# Altium footprint library C型车9S12XS主控板.PcbLib: 26 footprints (part 1 of 2)
Each footprint in its own frame and in the unit in brackets; x right, y up, seen from the top. Pads: shape width x height; smd on the part's side, far side on the other; paste and mask are expansions set on the pad; w line width, h text height; cw(c..) or ccw(c..) is an arc to the next point about the centre after c.
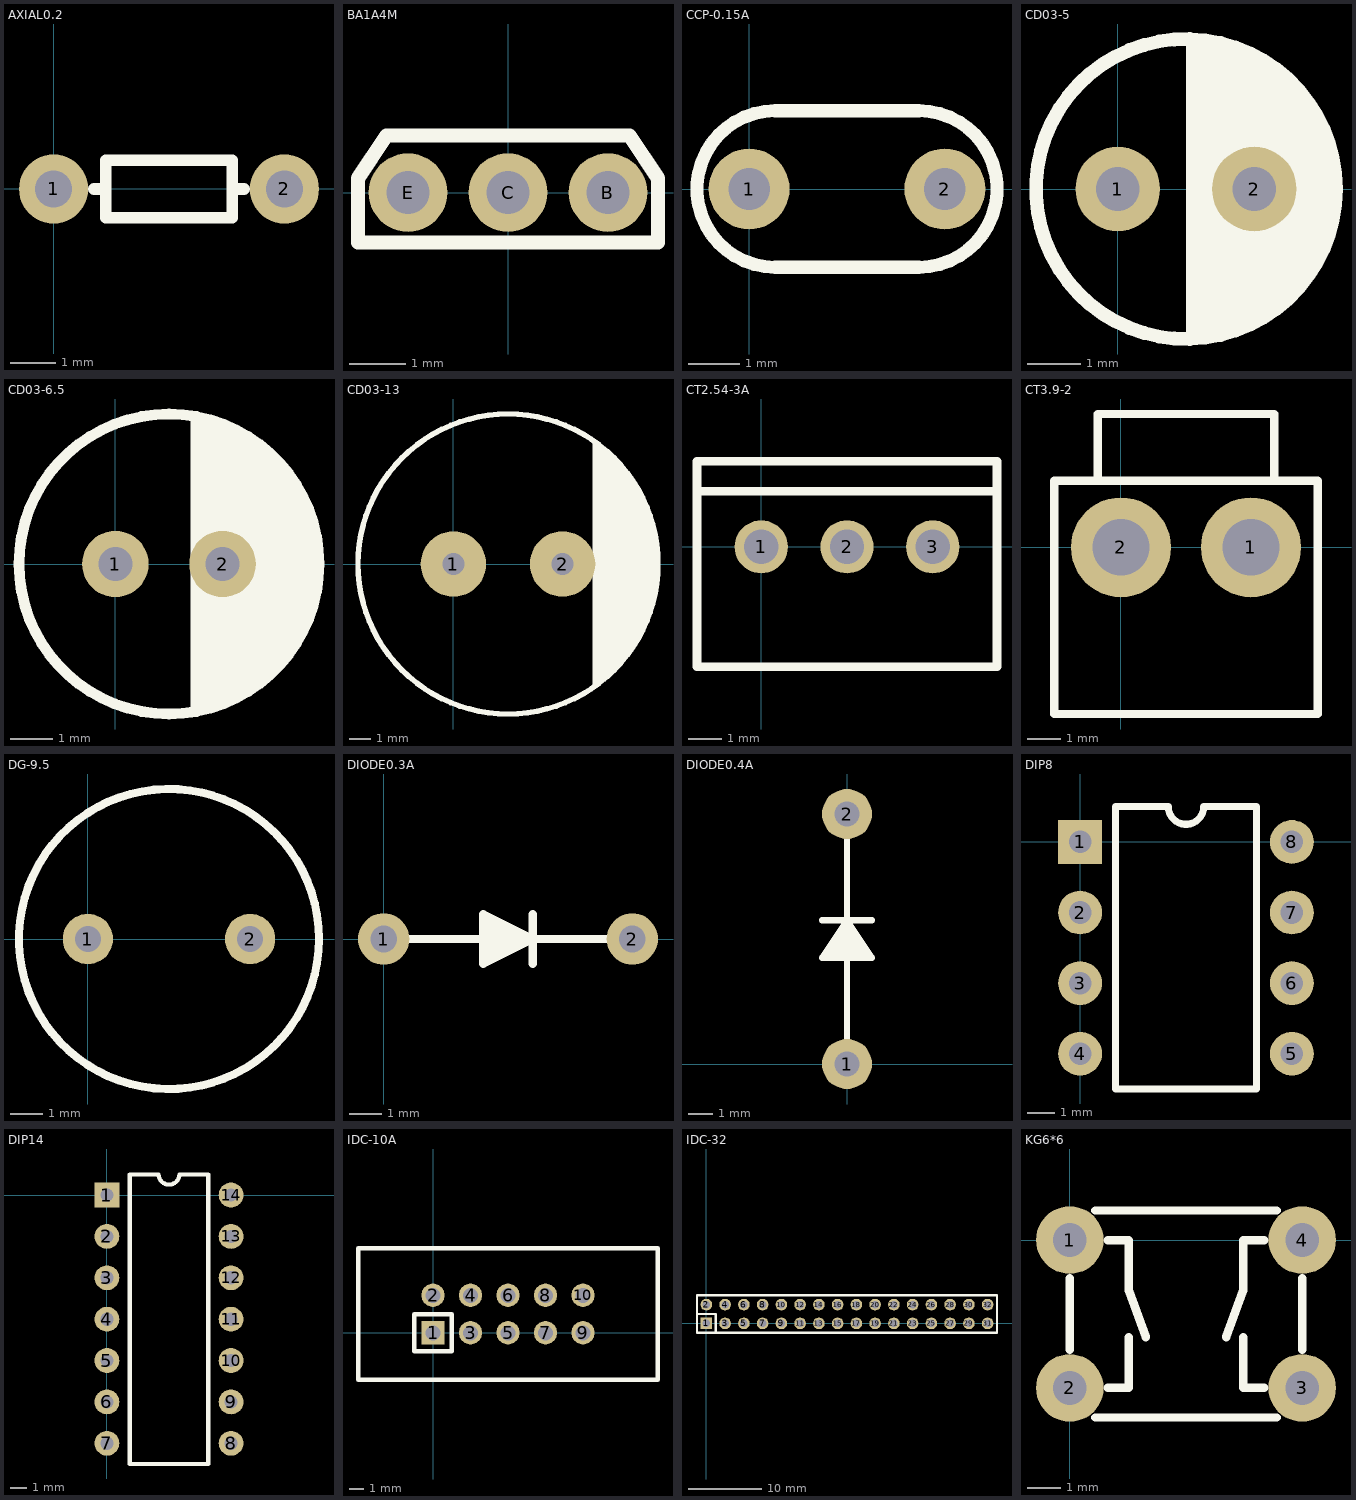
[diagram p0: the footprints below, top view; thin cyan lines are the x and y axes]

## AXIAL0.2 [mil]
pads (2):
  round 60 hole 32: 1(0,0) 2(200,0)
Top Overlay:
  lines w10: 35,0 40,0 ; 160,0 165,0 ; 45,-25 155,-25 155,25 45,25 45,-25

## BA1A4M [mil]
pads (3):
  round 55 hole 30: B(70,0) C(0,0) E(-70,0)
Top Overlay:
  lines w10: -105,-35 -105,10 -85,40 85,40 105,10 105,-35 -105,-35

## CCP-0.15A [mil]
pads (2):
  round 62 hole 32: 1(0,0) 2(150,0)
Top Overlay:
  lines w10: 20,-60 cw(c20,0) 20,60 130,60 cw(c130,0) 130,-60 20,-60

## CD03-5 [mil]
pads (2):
  round 62 hole 32: 1(0,0) 2(100,0)
Top Overlay:
  circle w10: c50,0 r110
  rectangle: 150,-35 155,35
  rectangle: 140,-55 150,55
  rectangle: 130,-70 140,70
  rectangle: 120,-80 130,80
  rectangle: 110,-90 120,90
  rectangle: 95,-95 110,95
  rectangle: 50,-105 95,105

## CD03-6.5 [mil]
pads (2):
  round 62 hole 32: 1(0,0) 2(100,0)
Top Overlay:
  circle w10: c50,0 r140
  rectangle: 180,-40 185,40
  rectangle: 175,-55 180,55
  rectangle: 170,-65 175,65
  rectangle: 165,-75 170,75
  rectangle: 155,-85 165,85
  rectangle: 150,-95 155,95
  rectangle: 145,-100 150,100
  rectangle: 140,-105 145,105
  rectangle: 130,-110 140,110
  rectangle: 120,-120 130,120
  rectangle: 110,-125 120,125
  rectangle: 100,-130 110,130
  rectangle: 70,-135 100,135

## CD03-13 [mil]
pads (2):
  round 120 hole 40: 1(0,0) 2(200,0)
Top Overlay:
  circle w10: c100,0 r275
  rectangle: 265,-215 270,215
  rectangle: 255,-225 265,225
  rectangle: 360,-75 370,75
  rectangle: 350,-105 360,105
  rectangle: 340,-125 350,125
  rectangle: 330,-140 340,145
  rectangle: 320,-160 330,160
  rectangle: 310,-170 320,170
  rectangle: 300,-185 310,185
  rectangle: 290,-195 300,195
  rectangle: 280,-205 290,205
  rectangle: 270,-215 280,210

## CT2.54-3A [mil]
pads (3):
  round 62 hole 40: 1(0,0) 2(100,0) 3(200,0)
Top Overlay:
  lines w10: -75,65 275,65 ; -75,-140 275,-140 275,100 -75,100 -75,-140

## CT3.9-2 [mm]
pads (2):
  round 3 hole 1.7: 1(3.9,0) 2(0,0)
Top Overlay:
  lines w0.254: -0.7,2 -0.7,4 4.6,4 4.6,2 ; -0.7,2 4.6,2 ; -0.7,2 -2,2 -2,-5 5.9,-5 5.9,2 4.6,2

## DG-9.5 [mil]
pads (2):
  round 62 hole 32: 1(0,0) 2(200,0)
Top Overlay:
  circle w10: c100,0 r185

## DIODE0.3A [mil]
pads (2):
  round 62 hole 32: 1(0,0) 2(300,0)
Top Overlay:
  rectangle: 155,-10 170,10
  rectangle: 140,-15 155,15
  rectangle: 125,-25 140,25
  rectangle: 175,-10 185,10
  rectangle: 185,-5 190,5
  lines w10: 0,0 120,0 ; 180,-30 180,30 ; 300,0 180,0 ; 180,0 120,-30 120,30 180,0

## DIODE0.4A [mil]
pads (2):
  round 80 hole 40: 1(0,0) 2(0,400)
Top Overlay:
  rectangle: -35,175 35,185
  rectangle: -25,185 25,200
  rectangle: -15,200 15,215
  rectangle: -5,215 5,225
  lines w10: -40,230 40,230 ; 0,0 0,170 ; 0,400 0,230 ; 0,230 40,170 -40,170 0,230

## DIP8 [mil]
pads (8):
  rect 62x62 hole 32: 1(0,0)
  round 62 hole 32: 2(0,-100) 3(0,-200) 4(0,-300) 5(300,-300) 6(300,-200) 7(300,-100) 8(300,0)
Top Overlay:
  lines w10: 50,-350 250,-350 250,50 175,50 cw(c150,50) 125,50 50,50 50,-350

## DIP14 [mil]
pads (14):
  rect 60x60 hole 32: 1(0,0)
  round 60 hole 32: 2(0,-100) 3(0,-200) 4(0,-300) 5(0,-400) 6(0,-500) 7(0,-600) 8(300,-600) 9(300,-500) 10(300,-400) 11(300,-300) 12(300,-200) 13(300,-100) 14(300,0)
Top Overlay:
  lines w10: 55,-650 55,50 125,50 ccw(c150,50) 175,50 245,50 245,-650 55,-650

## IDC-10A [mil]
pads (10):
  rect 62x62 hole 40: 1(0,0)
  round 62 hole 40: 2(0,100) 3(100,0) 4(100,100) 5(200,0) 6(200,100) 7(300,0) 8(300,100) 9(400,0) 10(400,100)
Top Overlay:
  lines w12: -200,-125 -200,225 600,225 600,-125 -200,-125 ; -50,-50 -50,50 50,50 50,-50 -50,-50

## IDC-32 [mil]
pads (32):
  rect 62x62 hole 40: 1(0,0)
  round 62 hole 40: 2(0,100) 3(100,0) 4(100,100) 5(200,0) 6(200,100) 7(300,0) 8(300,100) 9(400,0) 10(400,100) 11(500,0) 12(500,100) 13(600,0) 14(600,100) 15(700,0) 16(700,100) 17(800,0) 18(800,100) 19(900,0) 20(900,100) 21(1000,0) 22(1000,100) 23(1100,0) 24(1100,100) 25(1200,0) 26(1200,100) 27(1300,0) 28(1300,100) 29(1400,0) 30(1400,100) 31(1500,0) 32(1500,100)
Top Overlay:
  lines w12: -50,50 50,50 50,-50 ; -50,-50 1550,-50 1550,150 -50,150 -50,-50

## KG6*6 [mil]
pads (4):
  round 80 hole 40: 1(0,0) 2(0,-175) 3(275,-175) 4(275,0)
Top Overlay:
  lines w10: 0,-130 0,-45 ; 30,-210 245,-210 ; 30,35 245,35 ; 45,-175 70,-175 70,-115 ; 45,0 70,0 70,-60 90,-115 ; 185,-115 205,-60 205,0 230,0 ; 205,-115 205,-175 230,-175 ; 275,-130 275,-45